# Altium footprint library PLCC-20.PcbLib: 1 footprints
Each footprint in its own frame and in the unit in brackets; x right, y up, seen from the top. Pads: shape width x height; smd on the part's side, far side on the other; paste and mask are expansions set on the pad; w line width, h text height; cw(c..) or ccw(c..) is an arc to the next point about the centre after c.
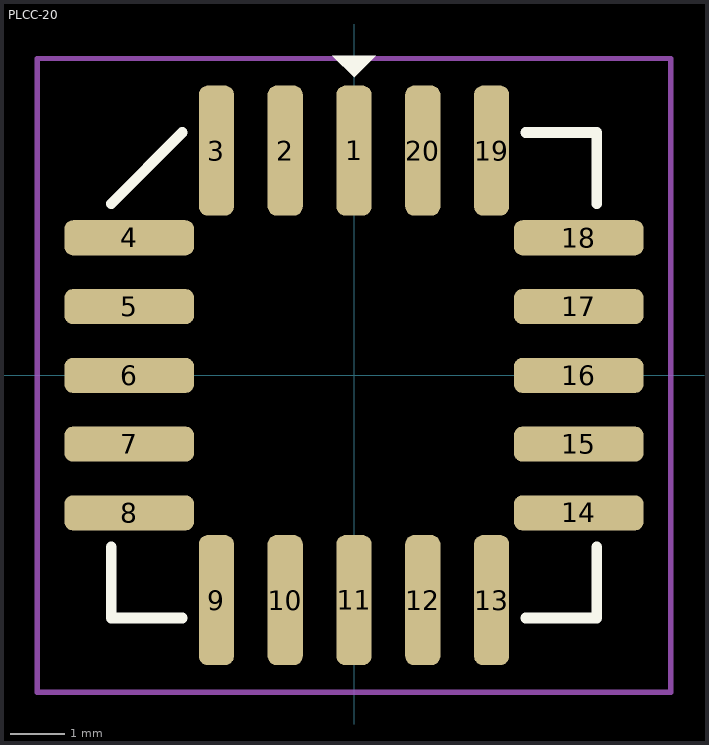
[diagram p0: the footprint, top view; thin cyan lines are the x and y axes]

## PLCC-20 [mm]
pads (20):
  rrect50% 0.65x2.4 smd: 1(0,4.15) 2(-1.27,4.15) 3(-2.54,4.15) 9(-2.54,-4.15) 10(-1.27,-4.15) 11(0,-4.15) 12(1.27,-4.15) 13(2.54,-4.15) 19(2.54,4.15) 20(1.27,4.15)
  rrect50% 2.4x0.65 smd: 4(-4.15,2.54) 5(-4.15,1.27) 6(-4.15,0) 7(-4.15,-1.27) 8(-4.15,-2.54) 14(4.15,-2.54) 15(4.15,-1.27) 16(4.15,0) 17(4.15,1.27) 18(4.15,2.54)
Top Overlay:
  region: -0.4,5.9 0.4,5.9 0,5.5
  lines w0.2: -4.483,-3.17 -4.483,-4.483 -3.17,-4.483 ; -4.483,3.17 -3.17,4.483 ; 3.17,-4.483 4.483,-4.483 4.483,-3.17 ; 3.17,4.483 4.483,4.483 4.483,3.17
Top Courtyard:
  lines w0.1: -5.85,-5.85 5.85,-5.85 5.85,5.85 -5.85,5.85 -5.85,-5.85
3D body "LM3914VX_NOPB.STEP": height 4.62, standoff 0.05, extent -4.953,-4.953 4.953,4.953